# Altium integrated library ICL_test_parts.IntLib: 3 symbols
Pins are listed as number, name and electrical type; pins without a type are passive.

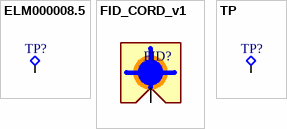
[diagram p0: symbols ELM000008.5 to TP]

## ELM000008.5
designator TP?, comment TP  (value not drawn)  (no BOM)
footprint TP_SMD_0.8mm (1mm)
pins: 1

## FID_CORD_v1
designator FID?, comment FID  (value not drawn)
Fiducial for cordinate; ITSN: FIDUCIALS_GENERIC
footprint FID_CORD_1 (Fiducial for cordinate)
footprint FID_ROUND_1mm (Fiducial round 1mm)
footprint FID_ROUND_0.8mm (Fiducial round 0.8mm)
footprint FID_RECT_1mm (Fiducial rect 1mm)
pins: FID1 1

## TP
designator TP?  (value not drawn)  (no BOM)
footprint TP_mini_1 (0.2mm)
footprint TP_1mm_A001 (1mm)
footprint TP_SMD_0.8mm (1mm)
pins: 1